# EAGLE library part ATTINY24/44/84 (library SaintGimp)
8-bit Microcontroller with In-System Programmable Flash
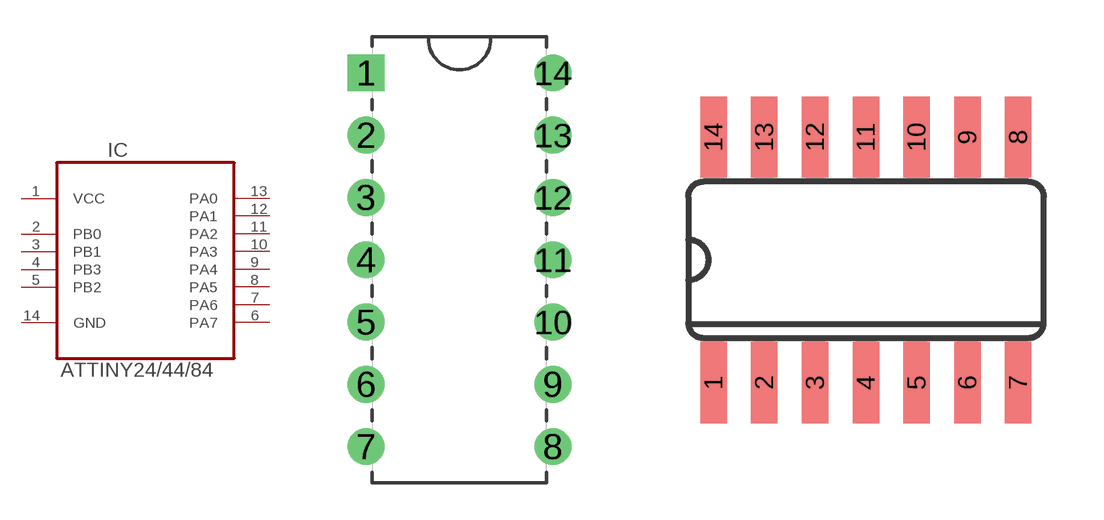
[diagram p3: symbol with the pads of DIP14; footprints DIP14, SO-14]

Designator prefix IC

## ATTINY24/44/84-20PU (MPN: ATTINY84-20PU; OC_FARNELL: -; OC_NEWARK: 58M3794; PACKAGE: PDIP-14; SUPPLIER: Atmel)  [DIP14]
1  VCC  pwr
2  PB0
3  PB1
4  PB3
5  PB2
6  PA7
7  PA6
8  PA5
9  PA4
10  PA3
11  PA2
12  PA1
13  PA0
14  GND  pas

## ATTINY24/44/84-SSU  [SO-14]
1  VCC  pwr
2  PB0
3  PB1
4  PB2
5  PB3
6  PA7
7  PA6
8  PA5
9  PA4
10  PA3
11  PA2
12  PA1
13  PA0
14  GND  pas

## Footprint DIP14 (pad centres in mm)
drill 0.991 square: 1 -3.81,7.62
drill 0.991: 2 -3.81,5.08; 3 -3.81,2.54; 4 -3.81,0; 5 -3.81,-2.54; 6 -3.81,-5.08; 7 -3.81,-7.62; 8 3.81,-7.62; 9 3.81,-5.08; 10 3.81,-2.54; 11 3.81,0; 12 3.81,2.54; 13 3.81,5.08; 14 3.81,7.62

## Footprint SO-14 (pad centres in mm)
Small Outline package 150 mil
smd 0.66 x 2.032: 1 -3.81,-3.073; 2 -2.54,-3.073; 3 -1.27,-3.073; 4 0,-3.073; 5 1.27,-3.073; 6 2.54,-3.073; 7 3.81,-3.073; 8 3.81,3.073; 9 2.54,3.073; 10 1.27,3.073; 11 0,3.073; 12 -1.27,3.073; 13 -2.54,3.073; 14 -3.81,3.073